# Altium footprint library Spectro.PcbLib: 37 footprints (part 3 of 3)
Each footprint in its own frame and in the unit in brackets; x right, y up, seen from the top. Pads: shape width x height; smd on the part's side, far side on the other; paste and mask are expansions set on the pad; w line width, h text height; cw(c..) or ccw(c..) is an arc to the next point about the centre after c.
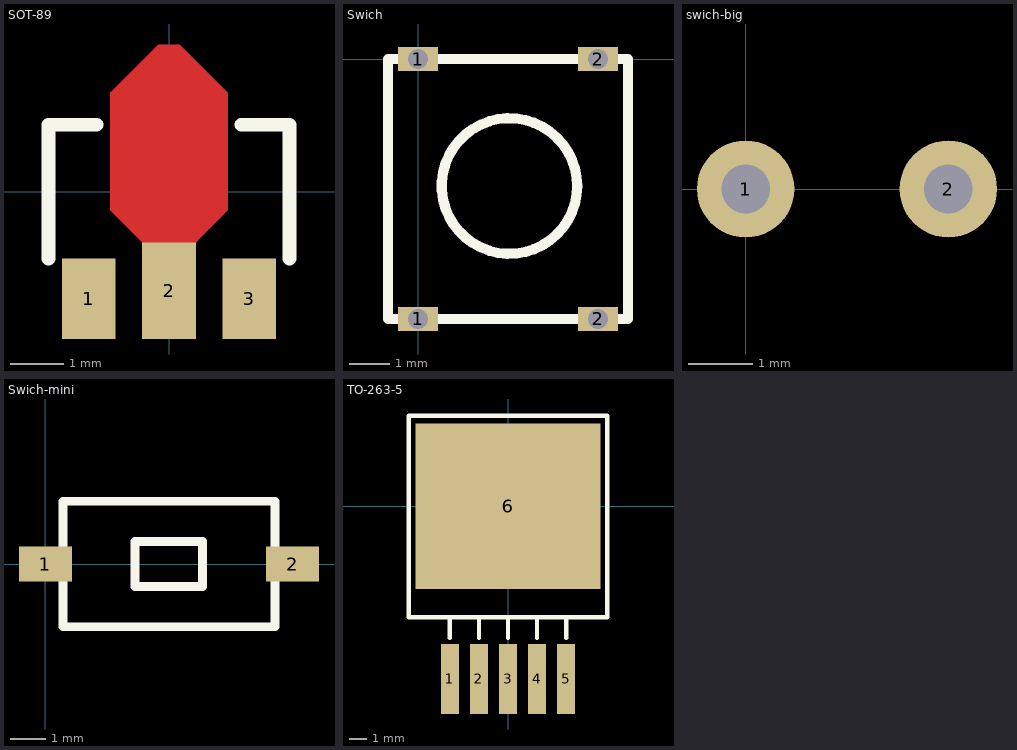
[diagram p2: the footprints below, top view; thin cyan lines are the x and y axes]

## SOT-89 [mm] "SOT-89, TO-243AA"
height 1.5
pads (3):
  rect 1x1.5 smd: 1(-1.5,-2) 3(1.5,-2)
  rect 1x1.8 smd: 2(0,-1.85)
Top Layer:
  rectangle: -1.1,-0.35 1.1,1.85
  rectangle: -0.198,1.848 0.202,2.748
  region: 0.202,0.952 1.1,1.85 0.202,2.748 -0.696,1.85
  region: -0.202,0.952 0.696,1.85 -0.202,2.748 -1.1,1.85
  region: 0,-1.45 1.1,-0.35 0,0.75 -1.1,-0.35
Top Overlay:
  lines w0.254: -2.25,-1.25 -2.25,1.25 -1.35,1.25 ; 1.35,1.25 2.25,1.25 2.25,-1.25
Top Solder:
  region: 0,-1.591 1.2,-0.391 0,0.809 -1.2,-0.391
  rectangle: -1.2,-0.391 1.2,1.891
  region: -0.241,0.933 0.717,1.891 -0.241,2.85 -1.2,1.891
  region: 0.241,0.933 1.2,1.891 0.241,2.85 -0.717,1.891
  rectangle: -0.241,1.891 0.241,2.85
3D body "SOT-89.STEP": height 1.54, standoff 0, extent -2.25,-2.25 2.25,2

## Swich [mm] "6*6"
pads (4):
  rect 1x0.6 hole 0.5 square: 1(0,-6.5) 1(0,0) 2(4.5,-6.5) 2(4.5,0)
Top Overlay:
  circle w0.254: c2.286,-3.175 r1.694
  lines w0.254: -0.75,-6.5 5.25,-6.5 5.25,0 -0.75,0 -0.75,-6.5

## swich-big [mil]
pads (2):
  round 60 hole 30: 1(0,0) 2(125,0)

## Swich-mini [mm] "3*6*2.5轻触开关贴片 12V 50mA"
height 2.5
pads (2):
  rect 1.5x1 smd: 1(0,0) 2(7,0)
Top Overlay:
  lines w0.254: 0.5,-1.778 6.5,-1.778 6.5,1.778 0.5,1.778 0.5,-1.77 0.508,-1.778 ; 2.54,-0.635 4.445,-0.635 4.445,0.635 2.54,0.635 2.54,-0.635

## TO-263-5 [mm] "TO-263, 5PIN"
height 4.83
pads (6):
  rect 1.05x4.1 smd: 1(-3.4,-10.1) 2(-1.7,-10.1) 3(0,-10.1) 4(1.7,-10.1) 5(3.4,-10.1)
  rect 10.8x9.7 smd: 6(0,0)
Top Overlay:
  lines w0.254: -3.4,-7.7 -3.4,-6.5 ; -1.7,-7.7 -1.7,-6.5 ; 0,-7.7 0,-6.5 ; 1.7,-7.7 1.7,-6.5 ; 3.4,-7.7 3.4,-6.5 ; -5.8,-6.5 -5.8,5.3 5.8,5.3 5.8,-6.5 -5.8,-6.5
3D body "TO-263-5.STEP": height 4.56, standoff 0, extent -5.1,-10.1 5.06,3.915